# Altium schematic symbol library 4.1 - 未分类器件.SchLib: 16 symbols
Pins are listed as number, name and electrical type; pins without a type are passive.

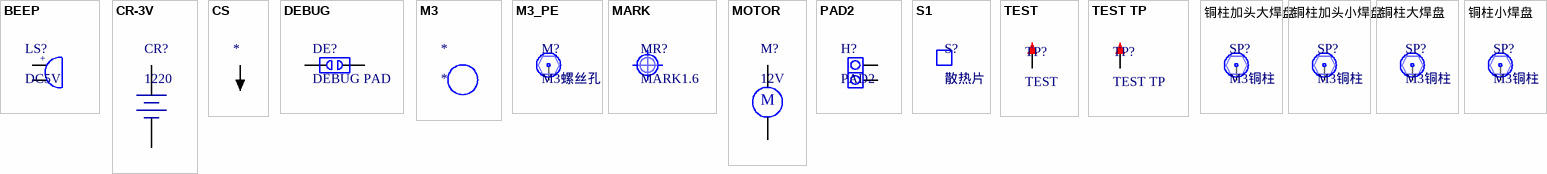
[diagram p0: symbols BEEP to 铜柱小焊盘]

## BEEP
designator LS?, comment DC5V
蜂鸣器; 版权归属: 封装库来自淘宝 ID：黄晶宝石; BOM名称: 蜂鸣器; 技术支持，联系售后: https://shop463601444.taobao.com
footprint BEEP 6.5x12x6 (6.5*12*6mm(脚距,直径,高度))
footprint BEEP 5x9x5.5 (5*9*5.5mm(脚距,直径,高度))
footprint BEEP 6.5x12x8.5 (6.5*12*8.5mm(脚距,直径,高度))
footprint BEEP 7.6X12X7.5 (6.5*12*7.5mm(脚距,直径,高度))
footprint BEEP 7.6X12X9.5 (6.5*12*9.5mm(脚距,直径,高度))
pins: 1, 2
text: +

## CR-3V
designator CR?, comment 1220
微型电池; 版权归属: 封装库来自淘宝 ID：黄晶宝石; BOM名称: 微型电池; 学习资源: https://shop463601444.taobao.com
footprint CR1220_A (纽扣电池座)
footprint CR1220_B (纽扣电池座)
footprint ML621FE (可充电纽扣电池)
footprint CR2032_A (纽扣电池座)
footprint CR2032_B (纽扣电池座)
pins: 1 DC+, 2 DC-

## CS
designator *
探针焊盘; 版权归属: 封装库来自淘宝 ID：黄晶宝石; BOM名称: 探针焊盘; 学习资源: https://shop463601444.taobao.com
footprint R100 (R100探针焊盘)
pins: 1

## DEBUG
designator DE?, comment DEBUG PAD
调试断点焊盘; 版权归属: 封装库来自淘宝 ID：黄晶宝石; BOM名称: 调试断点焊盘; 学习资源: https://shop463601444.taobao.com
footprint DEBUG_A (Footprint not found)
footprint DEBUG_B (调试断点焊盘)
pins: 1, 2

## M3
designator *
铜柱孔; 版权归属: 封装库来自淘宝 ID：黄晶宝石; BOM名称: 铜柱孔; 学习资源: https://shop463601444.taobao.com
footprint M3 140X350 (M3螺丝孔，孔140Mil，焊盘350Mil)
footprint M3 125X300 (M3螺丝孔，孔125Mil，焊盘300Mil)
footprint M3 125X200 (M3螺丝孔，孔125Mil，焊盘200Mil)

## M3_PE
designator M?, comment M3螺丝孔
BOM名称: 铜柱; 版权归属: 封装库来自淘宝 ID：黄晶宝石; 封装库来自淘宝卖家 ID：黄晶宝石: 其他店铺购入均为盗版，不享受售后技术支持服务，请立即申请退款; 技术支持，联系售后: https://shop463601444.taobao.com
footprint M3 125X200 (M3螺丝孔，孔125Mil，焊盘200Mil)
footprint M3 125X300 (M3螺丝孔，孔125Mil，焊盘300Mil)
footprint M3 140x350 (M3螺丝孔，孔140Mil，焊盘350Mil)
pins: 1

## MARK
designator MR?, comment MARK1.6
光学定位点; 版权归属: 封装库来自淘宝 ID：黄晶宝石; BOM名称: 光学定位点; 学习资源: https://shop463601444.taobao.com
footprint Mark 1 (光学定位点，直径1mm)
footprint Mark 1.6 (光学定位点，直径1.6mm)

## MOTOR
designator M?, comment 12V
直流电机; 版权归属: 封装库来自淘宝 ID：黄晶宝石; BOM名称: 直流电机; 学习资源: https://shop463601444.taobao.com
footprint XH2.54-LI-2P (接插件，2P)
pins: 1, 2
text: M

## PAD2
designator H?
引线焊盘; 版权归属: 封装库来自淘宝 ID：黄晶宝石; BOM名称: 引线焊盘; 学习资源: https://shop463601444.taobao.com
footprint PAD2-5.08
footprint PAD2-2.54 (引线焊盘)
pins: 1, 2

## S1
designator S?, comment 散热片
版权归属: 封装库来自淘宝 ID：黄晶宝石; BOM名称: 散热片; 学习资源: https://shop463601444.taobao.com
footprint SRP10-15-21 (10mm*15mm*21mm(长*宽*高))
footprint SRP10-15-21-P (10mm*15mm*21mm(长*宽*高))
footprint SRP10-15-21-W (10mm*15mm*21mm(长*宽*高))
footprint SRP10-15-25 (10mm*15mm*25mm(长*宽*高))
footprint SRP10-15-25-P (10mm*15mm*25mm(长*宽*高))
footprint SRP10-15-25-W (10mm*15mm*25mm(长*宽*高))
footprint SRP12-34-25-P (12mm*32mm*25mm(长*宽*高))
footprint SRP16-24-25 (16mm*24mm*25mm(长*宽*高))
footprint SRP16-24-25-P (16mm*24mm*25mm(长*宽*高))
footprint SRP16-24-25-W (16mm*24mm*25mm(长*宽*高))

## TEST
designator TP?
测试点; 版权归属: 封装库来自淘宝 ID：黄晶宝石; BOM名称: 测试点; 学习资源: https://shop463601444.taobao.com
footprint TEST 1 (测试点1mm)
footprint TEST 1.6 (测试点1.6mm)
footprint TEST 1.4 (测试点1.4mm)
footprint TEST 1.8 (测试点1.8mm)
footprint TEST 1.2 (测试点1.2mm)
footprint TEST 0.8 (测试点0.8mm)
footprint TEST 2.0 (测试点2.0mm)
footprint TEST 2.2 (测试点2.2mm)
footprint TEST 2.4 (测试点2.4mm)
footprint TEST 2.6 (测试点2.6mm)
pins: 1

## TEST TP
designator TP?
测试环; 版权归属: 封装库来自淘宝 ID：黄晶宝石; BOM名称: 测试环; 学习资源: https://shop463601444.taobao.com
footprint TEST TP1.4_B (蓝色，测试环)
footprint TEST TP1.4_R (红色，测试环)
footprint TEST TP1.4_G (绿色，测试环)
footprint TEST TP1.4_W (白色，测试环)
footprint TEST TP1.4_Y (黄色，测试环)
footprint TEST TP1.4_BK (黑色，测试环)
pins: 1

## 铜柱加头大焊盘
designator SP?, comment M3铜柱
铜柱; 版权归属: 封装库来自淘宝 ID：黄晶宝石; BOM名称: 铜柱; 学习资源: https://shop463601444.taobao.com
footprint M3x4+6_N (M3铜柱，长：4mm，螺纹长：6mm)
footprint M3x5+6_N (M3铜柱，长：5mm，螺纹长：6mm)
footprint M3x6+6_N (M3铜柱，长：6mm，螺纹长：6mm)
footprint M3x7+6_N (M3铜柱，长：7mm，螺纹长：6mm)
footprint M3x8+6_N (M3铜柱，长：8mm，螺纹长：6mm)
footprint M3x9+6_N (M3铜柱，长：9mm，螺纹长：6mm)
footprint M3x10+6_N (M3铜柱，长：10mm，螺纹长：6mm)
footprint M3x11+6_N (M3铜柱，长：11mm，螺纹长：6mm)
footprint M3x12+6_N (M3铜柱，长：12mm，螺纹长：6mm)
footprint M3x13+6_N (M3铜柱，长：13mm，螺纹长：6mm)
footprint M3x14+6_N (M3铜柱，长：14mm，螺纹长：6mm)
footprint M3x15+6_N (M3铜柱，长：15mm，螺纹长：6mm)
footprint M3x16+6_N (M3铜柱，长：16mm，螺纹长：6mm)
footprint M3x17+6_N (M3铜柱，长：17mm，螺纹长：6mm)
footprint M3x18+6_N (M3铜柱，长：18mm，螺纹长：6mm)
footprint M3x19+6_N (M3铜柱，长：19mm，螺纹长：6mm)
footprint M3x20+6_N (M3铜柱，长：20mm，螺纹长：6mm)
footprint M3x21+6_N (M3铜柱，长：21mm，螺纹长：6mm)
footprint M3x22+6_N (M3铜柱，长：22mm，螺纹长：6mm)
footprint M3x23+6_N (M3铜柱，长：23mm，螺纹长：6mm)
footprint M3x24+6_N (M3铜柱，长：24mm，螺纹长：6mm)
footprint M3x25+6_N (M3铜柱，长：25mm，螺纹长：6mm)
footprint M3x26+6_N (M3铜柱，长：26mm，螺纹长：6mm)
footprint M3x27+6_N (M3铜柱，长：27mm，螺纹长：6mm)
footprint M3x28+6_N (M3铜柱，长：28mm，螺纹长：6mm)
footprint M3x30+6_N (M3铜柱，长：30mm，螺纹长：6mm)
footprint M3x32+6_N (M3铜柱，长：32mm，螺纹长：6mm)
footprint M3x35+6_N (M3铜柱，长：35mm，螺纹长：6mm)
footprint M3x40+6_N (M3铜柱，长：40mm，螺纹长：6mm)
footprint M3x45+6_N (M3铜柱，长：45mm，螺纹长：6mm)
footprint M3x50+6_N (M3铜柱，长：50mm，螺纹长：6mm)
footprint M3x55+6_N (M3铜柱，长：55mm，螺纹长：6mm)
footprint M3x60+6_N (M3铜柱，长：60mm，螺纹长：6mm)
footprint M3x65+6_N (M3铜柱，长：65mm，螺纹长：6mm)
pins: 1

## 铜柱加头小焊盘
designator SP?, comment M3铜柱
铜柱; 版权归属: 封装库来自淘宝 ID：黄晶宝石; BOM名称: 铜柱; 学习资源: https://shop463601444.taobao.com
footprint M3x4+6_L (M3铜柱，长：4mm，螺纹长：6mm)
footprint M3x5+6_L (M3铜柱，长：5mm，螺纹长：6mm)
footprint M3x6+6_L (M3铜柱，长：6mm，螺纹长：6mm)
footprint M3x7+6_L (M3铜柱，长：7mm，螺纹长：6mm)
footprint M3x8+6_L (M3铜柱，长：8mm，螺纹长：6mm)
footprint M3x9+6_L (M3铜柱，长：9mm，螺纹长：6mm)
footprint M3x10+6_L (M3铜柱，长：10mm，螺纹长：6mm)
footprint M3x11+6_L (M3铜柱，长：11mm，螺纹长：6mm)
footprint M3x12+6_L (M3铜柱，长：12mm，螺纹长：6mm)
footprint M3x13+6_L (M3铜柱，长：13mm，螺纹长：6mm)
footprint M3x14+6_L (M3铜柱，长：14mm，螺纹长：6mm)
footprint M3x15+6_L (M3铜柱，长：15mm，螺纹长：6mm)
footprint M3x16+6_L (M3铜柱，长：16mm，螺纹长：6mm)
footprint M3x17+6_L (M3铜柱，长：17mm，螺纹长：6mm)
footprint M3x18+6_L (M3铜柱，长：18mm，螺纹长：6mm)
footprint M3x19+6_L (M3铜柱，长：19mm，螺纹长：6mm)
footprint M3x20+6_L (M3铜柱，长：20mm，螺纹长：6mm)
footprint M3x21+6_L (M3铜柱，长：21mm，螺纹长：6mm)
footprint M3x22+6_L (M3铜柱，长：22mm，螺纹长：6mm)
footprint M3x23+6_L (M3铜柱，长：23mm，螺纹长：6mm)
footprint M3x24+6_L (M3铜柱，长：24mm，螺纹长：6mm)
footprint M3x25+6_L (M3铜柱，长：25mm，螺纹长：6mm)
footprint M3x26+6_L (M3铜柱，长：26mm，螺纹长：6mm)
footprint M3x27+6_L (M3铜柱，长：27mm，螺纹长：6mm)
footprint M3x28+6_L (M3铜柱，长：28mm，螺纹长：6mm)
footprint M3x30+6_L (M3铜柱，长：30mm，螺纹长：6mm)
footprint M3x32+6_L (M3铜柱，长：32mm，螺纹长：6mm)
footprint M3x35+6_L (M3铜柱，长：35mm，螺纹长：6mm)
footprint M3x40+6_L (M3铜柱，长：40mm，螺纹长：6mm)
footprint M3x45+6_L (M3铜柱，长：45mm，螺纹长：6mm)
footprint M3x50+6_L (M3铜柱，长：50mm，螺纹长：6mm)
footprint M3x55+6_L (M3铜柱，长：55mm，螺纹长：6mm)
footprint M3x60+6_L (M3铜柱，长：60mm，螺纹长：6mm)
footprint M3x65+6_L (M3铜柱，长：65mm，螺纹长：6mm)
pins: 1

## 铜柱大焊盘
designator SP?, comment M3铜柱
铜柱; 版权归属: 封装库来自淘宝 ID：黄晶宝石; BOM名称: 铜柱; 学习资源: https://shop463601444.taobao.com
footprint M3x4_N (M3铜柱，长：4mm)
footprint M3x5_N (M3铜柱，长：5mm)
footprint M3x6_N (M3铜柱，长：6mm)
footprint M3x7_N (M3铜柱，长：7mm)
footprint M3x8_N (M3铜柱，长：8mm)
footprint M3x9_N (M3铜柱，长：9mm)
footprint M3x10_N (M3铜柱，长：10mm)
footprint M3x11_N (M3铜柱，长：11mm)
footprint M3x12_N (M3铜柱，长：12mm)
footprint M3x13_N (M3铜柱，长：13mm)
footprint M3x14_N (M3铜柱，长：14mm)
footprint M3x15_N (M3铜柱，长：15mm)
footprint M3x16_N (M3铜柱，长：16mm)
footprint M3x17_N (M3铜柱，长：17mm)
footprint M3x18_N (M3铜柱，长：18mm)
footprint M3x20_N (M3铜柱，长：20mm)
footprint M3x21_N (M3铜柱，长：21mm)
footprint M3x22_N (M3铜柱，长：22mm)
footprint M3x23_N (M3铜柱，长：23mm)
footprint M3x24_N (M3铜柱，长：24mm)
footprint M3x25_N (M3铜柱，长：25mm)
footprint M3x26_N (M3铜柱，长：26mm)
footprint M3x27_N (M3铜柱，长：27mm)
footprint M3x28_N (M3铜柱，长：28mm)
footprint M3x30_N (M3铜柱，长：30mm)
footprint M3x32_N (M3铜柱，长：32mm)
footprint M3x35_N (M3铜柱，长：35mm)
footprint M3x40_N (M3铜柱，长：40mm)
footprint M3x45_N (M3铜柱，长：45mm)
footprint M3x50_N (M3铜柱，长：50mm)
footprint M3x55_N (M3铜柱，长：55mm)
footprint M3x60_N (M3铜柱，长：60mm)
footprint M3x65_N (M3铜柱，长：65mm)
pins: 1

## 铜柱小焊盘
designator SP?, comment M3铜柱
铜柱; 版权归属: 封装库来自淘宝 ID：黄晶宝石; 封装库来自淘宝卖家 ID：黄晶宝石: 其他店铺购入均为盗版，不享受售后技术支持服务，请立即申请退款; BOM名称: 铜柱; 技术支持，联系售后: https://shop463601444.taobao.com
footprint M3x4_L (M3铜柱，长：4mm)
footprint M3x5_L (M3铜柱，长：5mm)
footprint M3x6_L (M3铜柱，长：6mm)
footprint M3x7_L (M3铜柱，长：7mm)
footprint M3x8_L (M3铜柱，长：8mm)
footprint M3x9_L (M3铜柱，长：9mm)
footprint M3x10_L (M3铜柱，长：10mm)
footprint M3x11_L (M3铜柱，长：11mm)
footprint M3x12_L (M3铜柱，长：12mm)
footprint M3x13_L (M3铜柱，长：13mm)
footprint M3x14_L (M3铜柱，长：14mm)
footprint M3x15_L (M3铜柱，长：15mm)
footprint M3x16_L (M3铜柱，长：16mm)
footprint M3x17_L (M3铜柱，长：17mm)
footprint M3x18_L (M3铜柱，长：18mm)
footprint M3x19_L (M3铜柱，长：19mm)
footprint M3x20_L (M3铜柱，长：20mm)
footprint M3x21_L (M3铜柱，长：21mm)
footprint M3x22_L (M3铜柱，长：22mm)
footprint M3x23_L (M3铜柱，长：23mm)
footprint M3x24_L (M3铜柱，长：24mm)
footprint M3x25_L (M3铜柱，长：25mm)
footprint M3x26_L (M3铜柱，长：26mm)
footprint M3x27_L (M3铜柱，长：27mm)
footprint M3x28_L (M3铜柱，长：28mm)
footprint M3x30_L (M3铜柱，长：30mm)
footprint M3x32_L (M3铜柱，长：32mm)
footprint M3x35_L (M3铜柱，长：35mm)
footprint M3x40_L (M3铜柱，长：40mm)
footprint M3x45_L (M3铜柱，长：45mm)
footprint M3x50_L (M3铜柱，长：50mm)
footprint M3x55_L (M3铜柱，长：55mm)
footprint M3x60_L (M3铜柱，长：60mm)
footprint M3x65_L (M3铜柱，长：65mm)
pins: 1